# EAGLE library part SSSS810701-1-2 (library alps_japan_potentiometers)
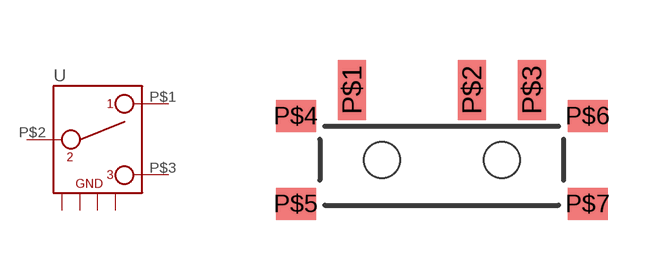
[diagram p2: symbol with the pads of SSSS810701; footprint SSSS810701]

Designator prefix -

## SSSS810701-1-2  [SSSS810701]
P$1  P$1
P$2  P$2
P$3  P$3
P$4  P$4  pwr
P$5  P$5  pwr
P$6  P$6  pas
P$7  P$7  pwr

## Footprint SSSS810701 (pad centres in mm)
smd 0.7 x 1.5: P$1 -2.25,1.75; P$2 0.75,1.75; P$3 2.25,1.75
smd 1 x 0.8: P$4 -3.65,1.1; P$5 -3.65,-1.1; P$6 3.65,1.1; P$7 3.65,-1.1
hole 0.9 at -1.5,0
hole 0.9 at 1.5,0